# EAGLE library part DS1307 (library n39)
Real Time Clock I²C 56B NV SRAM Reichelt: DS 1307 <https://www.reichelt.de/?ARTICLE=58149>, DS 1307Z <https://www.reichelt.de/?ARTICLE=58150>
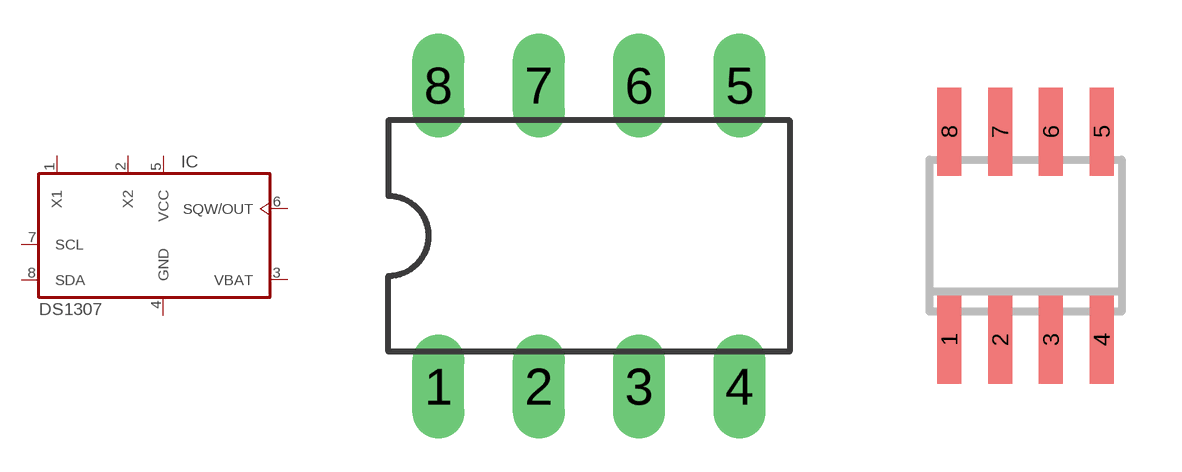
[diagram p10: symbol with the pads of DIL-08; footprints DIL-08, SO08]

Designator prefix IC

## DS1307 (REICHELT: DS 1307)  [DIL-08]
1  X1
2  X2
3  VBAT  pwr
4  GND  pwr
5  VCC  pwr
6  SQW/OUT  out
7  SCL
8  SDA

## DS1307Z (REICHELT: DS 1307Z)  [SO08]
Pads as for DIL-08

## Footprint DIL-08 (pad centres in mm)
Dual In Line Package
drill 0.813 long: 1 -3.81,-3.81; 2 -1.27,-3.81; 3 1.27,-3.81; 4 3.81,-3.81; 5 3.81,3.81; 6 1.27,3.81; 7 -1.27,3.81; 8 -3.81,3.81

## Footprint SO08 (pad centres in mm)
SMALL OUTLINE INTEGRATED CIRCUIT body 3.9 mm/JEDEC MS-012AA
smd 0.6 x 2.2: 1 -1.905,-2.6; 2 -0.635,-2.6; 3 0.635,-2.6; 4 1.905,-2.6; 5 1.905,2.6; 6 0.635,2.6; 7 -0.635,2.6; 8 -1.905,2.6